# EAGLE library part DS3231-RTCC (library Custom)
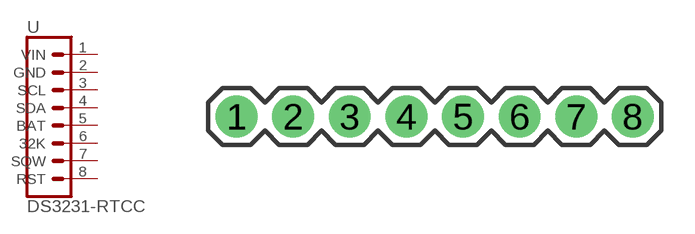
[diagram p2: symbol with the pads of 1X08; footprint 1X08]

Designator prefix -

## DS3231-RTCC  [1X08]
1  VIN  pwr
2  GND  pwr
3  SCL
4  SDA
5  BAT  pwr
6  32K
7  SQW
8  RST

## Footprint 1X08 (pad centres in mm)
Plated Through Hole -8 Pin Specifications: Pin count:8 Pin pitch:0.1" Example device(s): CONN_08
drill 1.016 pad 1.88: 1 0,0; 2 2.54,0; 3 5.08,0; 4 7.62,0; 5 10.16,0; 6 12.7,0; 7 15.24,0; 8 17.78,0